# EAGLE library part 1072-BOOST (library spietz-library)
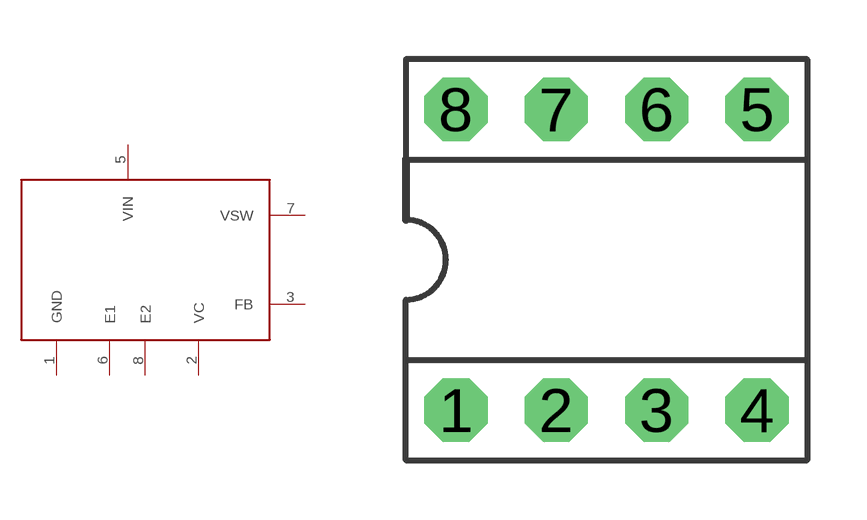
[diagram p11: symbol with the pads of 1072-BOOST; footprint 1072-BOOST]

Designator prefix -

## 1072-BOOST  [1072-BOOST]
1  GND
2  VC
3  FB
5  VIN
6  E1
7  VSW
8  E2

## Footprint 1072-BOOST (pad centres in mm)
drill 0.813 pad 1.6 octagon: 1 -3.81,-3.81; 2 -1.27,-3.81; 3 1.27,-3.81; 4 3.81,-3.81; 5 3.81,3.81; 6 1.27,3.81; 7 -1.27,3.81; 8 -3.81,3.81